# Altium schematic symbol library ic-interface.SchLib: 27 symbols
Pins are listed as number, name and electrical type; pins without a type are passive.

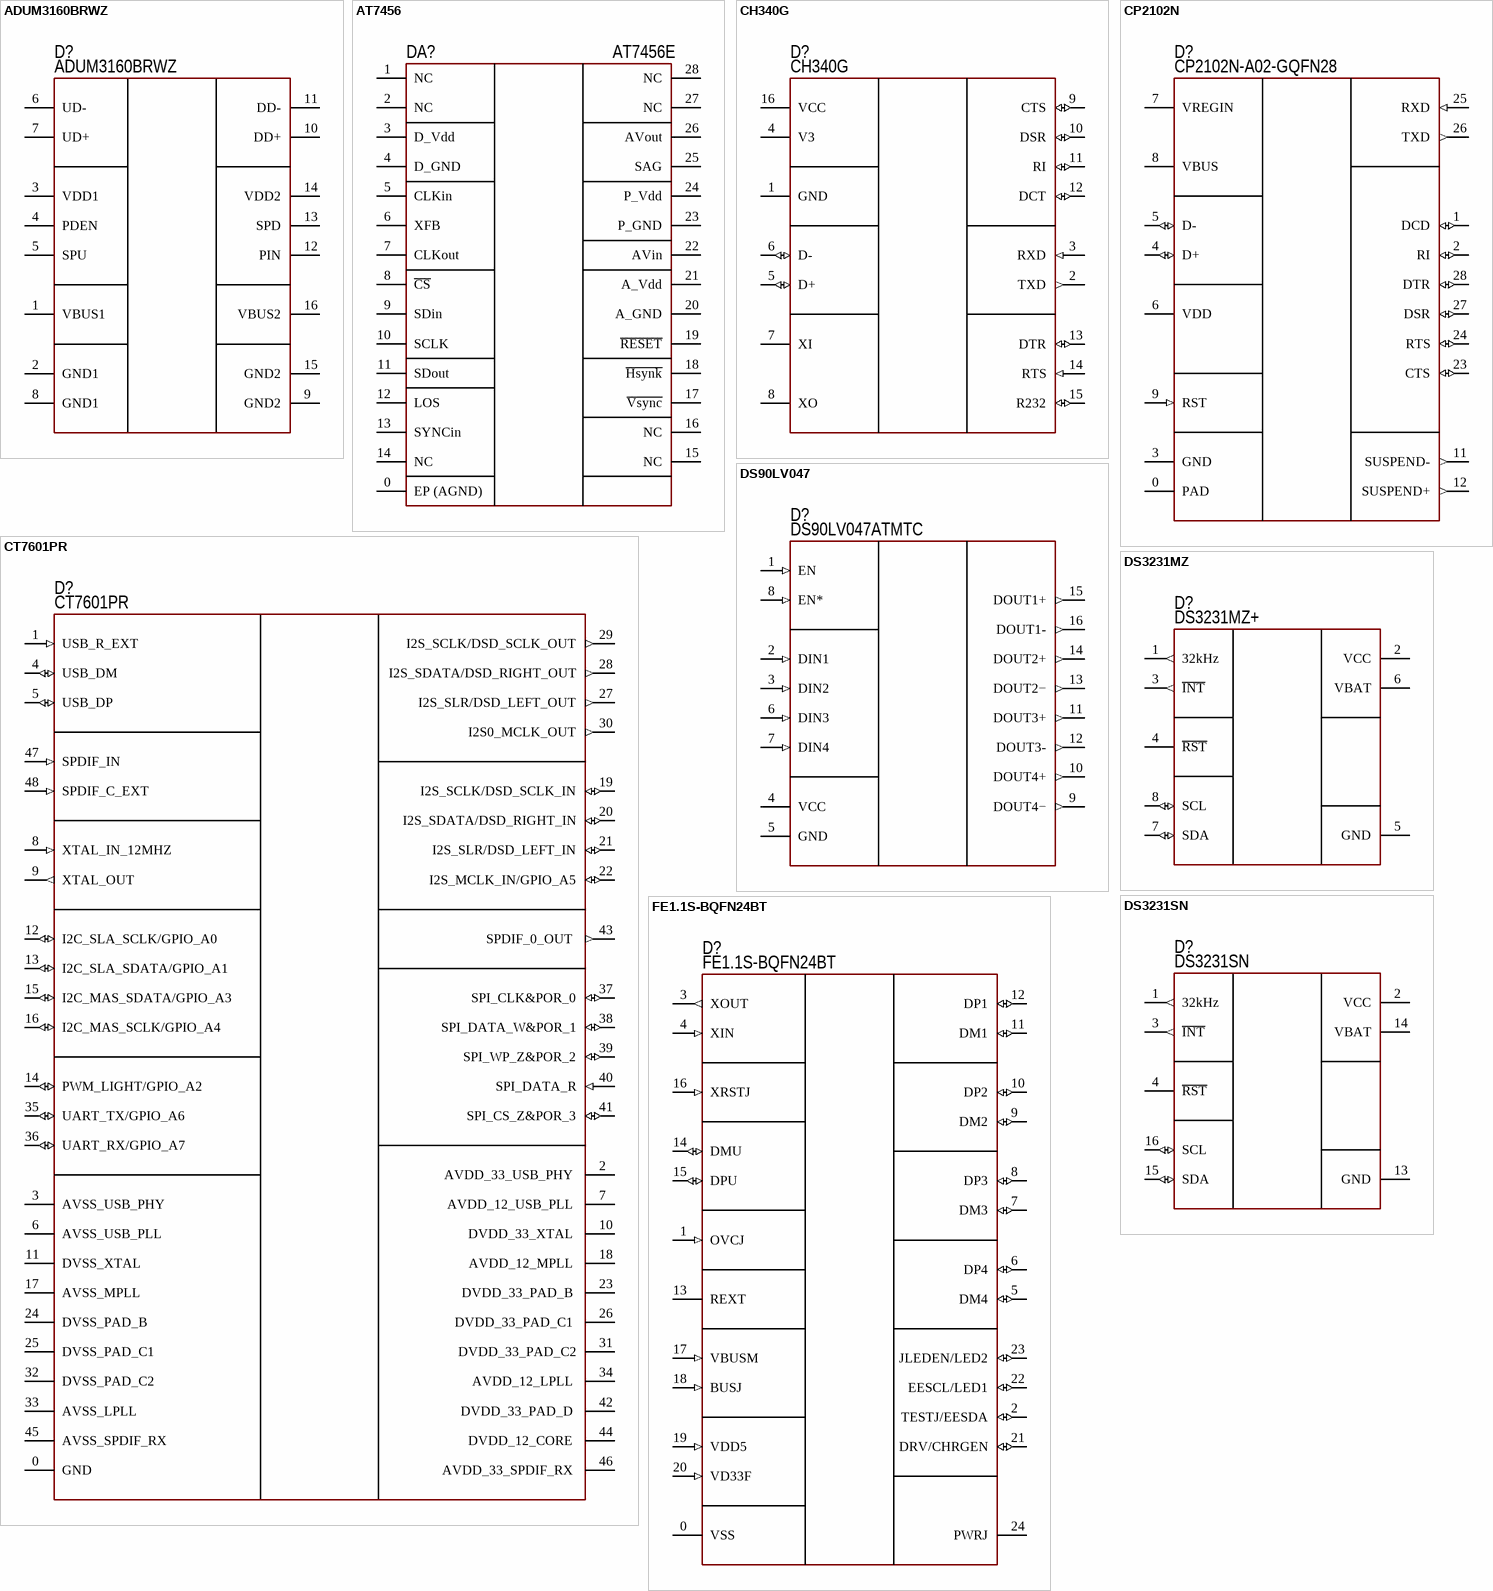
[diagram p0: symbols ADUM3160BRWZ to FE1.1S-BQFN24BT]

## ADUM3160BRWZ
designator D?  PartNumber: ADUM3160BRWZ
USB isolator; Manufacturer: Texas Instruments; ValueManufacturerPartNumber: IC USB isolator, 12Mbps, 2500Vrms, 3...5.5V, -40...+125°C, 16-TSSOP; Supply: 3...5.5V; DataRate: 12Mbps; Isolation: 2500Vrms; HelpURL: https://www.digikey.com/product-detail/en/analog-devices-inc/ADUM3160BRWZ-RL/ADUM3160BRWZ-RLCT-ND/3897186; Package: 16-TSSOP; ComponentType: IC USB isolator; Temperature: -40...+125°C
footprint 16-SOIC (pitch 1.27 mm)
pins: 1 VBUS1, 2 GND1, 3 VDD1, 4 PDEN, 5 SPU, 6 UD-, 7 UD+, 8 GND1, 9 GND2, 10 DD+, 11 DD-, 12 PIN, 13 SPD, 14 VDD2, 15 GND2, 16 VBUS2

## AT7456
designator DA?  PartNumber: AT7456E
analog video OSD, advanced clone of MAX7456; Manufacturer: ZHONGKEW; ValueManufacturerPartNumber: analog video OSD, CVBS, 3.2-5V, -40...+85°C, 28-TSSOP-EP; Supply: 3.2-5V; HelpURL: https://static.chipdip.ru/lib/007/DOC013007230.pdf; Package: 28-TSSOP-EP; ComponentType: analog video OSD; Temperature: -40...+85°C; Standard: CVBS
footprint 28-TSSOP-EP (pitch 0.65 mm, added exposed pad)
pins: 0 EP (AGND), 1 NC, 2 NC, 3 D_Vdd, 4 D_GND, 5 CLKin, 6 XFB, 7 CLKout, 8 ~{CS}, 9 SDin, 10 SCLK, 11 SDout, 12 LOS, 13 SYNCin, 14 NC, 15 NC, 16 NC, 17 ~{Vsync}, 18 ~{Hsynk}, 19 ~{RESET}, 20 A_GND, 21 A_Vdd, 22 AVin, 23 P_GND, 24 P_Vdd, 25 SAG, 26 AVout, 27 NC, 28 NC

## CH340G
designator D?  PartNumber: CH340G
USB-to-UART; Manufacturer: WCH(Jiangsu Qin Heng); ValueManufacturerPartNumber: IC usb-to-uart bridge, USB2.0, 3...3.6V, -40...+85°C, 16- SOP; Supply: 3...3.6V; HelpURL: https://lcsc.com/product-detail/USB-ICs_WCH-Jiangsu-Qin-Heng-CH340G_C14267.html; Package: 16- SOP; ComponentType: IC usb-to-uart bridge; Temperature: -40...+85°C; Standard: USB2.0
footprint 16-SOP (pitch 1.27 mm)
pins: 1 GND, 2 TXD (out), 3 RXD (in), 4 V3, 5 D+ (io), 6 D- (io), 7 XI, 8 XO, 9 CTS (io), 10 DSR (io), 11 RI (io), 12 DCT (io), 13 DTR (io), 14 RTS (in), 15 R232 (io), 16 VCC (power)

## CP2102N
designator D?  PartNumber: CP2102N-A02-GQFN28
USB-to-UART; Manufacturer: Silicon Labs; ValueManufacturerPartNumber: IC usb-to-uart bridge, USB2.0, 3...3.6V, -40...+85°C, 28-VFQFN; Supply: 3...3.6V; HelpURL: https://www.digikey.com/product-detail/en/silicon-labs/CP2102N-A02-GQFN28/336-5889-ND/9863477; Package: 28-VFQFN; ComponentType: IC usb-to-uart bridge; Temperature: -40...+85°C; Standard: USB2.0
footprint 28-QFN (5x5) (5x5 mm, pitch 0.5 mm, power pad)
pins: 0 PAD, 1 DCD (io), 2 RI (io), 3 GND, 4 D+ (io), 5 D- (io), 6 VDD, 7 VREGIN, 8 VBUS, 9 RST (in), 11 SUSPEND- (out), 12 SUSPEND+ (out), 23 CTS (io), 24 RTS (io), 25 RXD (in), 26 TXD (out), 27 DSR (io), 28 DTR (io)

## CT7601PR
designator D?  PartNumber: CT7601PR
Audio USB Bridge; Manufacturer: ComTrue Inc.; Supply: 1.2, 3.3V; HelpURL: https://www.comtrue-inc.com/index.php/download2/category/4-ct7601; Package: QFN-48; ComponentType: Audio USB Bridge; ValueManufacturerPartNumber: =ComponentType+', '+DataRate+', '+Isolation+', '+Supply+', '+Temperature+', '+Package; Temperature: -0...+70°C
footprint 48-QFN (6X6 S4.7) (QFN, 0.40mm Pitch, Square; 48 Pin, 6.00mm L X 6.00mm W X 0.90mm H body (w/thermal tab 4.7 X 4.7mm), IPC Medium Density)
pins: 0 GND, 1 USB_R_EXT (in), 2 AVDD_33_USB_PHY  (power), 3 AVSS_USB_PHY, 4 USB_DM (io), 5 USB_DP (io), 6 AVSS_USB_PLL , 7 AVDD_12_USB_PLL  (power), 8 XTAL_IN_12MHZ  (in), 9 XTAL_OUT  (out), 10 DVDD_33_XTAL  (power), 11 DVSS_XTAL, 12 I2C_SLA_SCLK/GPIO_A0 (io), 13 I2C_SLA_SDATA/GPIO_A1  (io), 14 PWM_LIGHT/GPIO_A2 (io), 15 I2C_MAS_SDATA/GPIO_A3 (io), 16 I2C_MAS_SCLK/GPIO_A4 (io), 17 AVSS_MPLL , 18 AVDD_12_MPLL  (power), 19 I2S_SCLK/DSD_SCLK_IN (io), 20 I2S_SDATA/DSD_RIGHT_IN (io), 21 I2S_SLR/DSD_LEFT_IN (io), 22 I2S_MCLK_IN/GPIO_A5 (io), 23 DVDD_33_PAD_B  (power), 24 DVSS_PAD_B , 25 DVSS_PAD_C1 , 26 DVDD_33_PAD_C1  (power), 27 I2S_SLR/DSD_LEFT_OUT (out), 28 I2S_SDATA/DSD_RIGHT_OUT (out), 29 I2S_SCLK/DSD_SCLK_OUT (out), 30 I2S0_MCLK_OUT (out), 31 DVDD_33_PAD_C2 (power), 32 DVSS_PAD_C2 , 33 AVSS_LPLL , 34 AVDD_12_LPLL  (power), 35 UART_TX/GPIO_A6 (io), 36 UART_RX/GPIO_A7 (io), 37 SPI_CLK&POR_0 (io), 38 SPI_DATA_W&POR_1 (io), 39 SPI_WP_Z&POR_2 (io), 40 SPI_DATA_R (in), 41 SPI_CS_Z&POR_3 (io), 42 DVDD_33_PAD_D  (power), 43 SPDIF_0_OUT  (out), 44 DVDD_12_CORE  (power), 45 AVSS_SPDIF_RX , 46 AVDD_33_SPDIF_RX  (power), 47 SPDIF_IN  (in), 48 SPDIF_C_EXT  (in)

## DS90LV047
designator D?  PartNumber: DS90LV047ATMTC
LVDS Interface IC; Manufacturer: Texas Instruments; ValueManufacturerPartNumber: Quad LVDS Interface IC, 400Mbps, TTL/CMOS, 3...3.6V, -40...+85°C, TSSOP-16; Supply: 3...3.6V; DataRate: 400Mbps; Input: TTL/CMOS; HelpURL: https://www.digikey.com/en/products/detail/texas-instruments/DS90LV047ATMTC/13442009; Package: TSSOP-16; ComponentType: Quad LVDS Interface IC; Temperature: -40...+85°C
footprint 16-TSSOP (pitch 0.65 mm)
footprint 16-SO (pitch 1.27 mm)
pins: 1 EN (in), 2 DIN1 (in), 3 DIN2 (in), 4 VCC (power), 5 GND, 6 DIN3 (in), 7 DIN4 (in), 8 EN* (in), 9 DOUT4− (out), 10 DOUT4+ (out), 11 DOUT3+ (out), 12 DOUT3- (out), 13 DOUT2− (out), 14 DOUT2+ (out), 15 DOUT1+ (out), 16 DOUT1- (out)

## DS3231MZ
designator D?  PartNumber: DS3231MZ+
Real Time Clocks; Manufacturer: Maxim; Supply: 2.3...5.5V; HelpURL: https://www.digikey.com/product-detail/en/maxim-integrated/DS3231MZ/DS3231MZ-ND/2754396; Package: 8-SOIC; ComponentType: Real Time Clocks; ValueManufacturerPartNumber: =ComponentType+', '+DataRate+', '+Isolation+', '+Supply+', '+Temperature+', '+Package; Temperature: -40...+85°C
footprint 8-SOIC (pitch 1.27 mm)
pins: 1 32kHz (out), 2 VCC, 3 ~{INT} (out), 4 ~{RST}, 5 GND, 6 VBAT, 7 SDA (io), 8 SCL (io)

## DS3231SN
designator D?  PartNumber: DS3231SN
Real Time Clocks; Manufacturer: Maxim; Supply: 2.3...5.5V; HelpURL: https://www.digikey.com/product-detail/en/maxim-integrated/DS3231SN-T-R/DS3231SN-T-RCT-ND/3894827; Package: 16-TSSOP; ComponentType: Real Time Clocks; ValueManufacturerPartNumber: =ComponentType+', '+DataRate+', '+Isolation+', '+Supply+', '+Temperature+', '+Package; Temperature: -40...+85°C
footprint 16-SOIC (pitch 1.27 mm)
pins: 1 32kHz (out), 2 VCC, 3 ~{INT} (out), 4 ~{RST}, 13 GND, 14 VBAT, 15 SDA (io), 16 SCL (io)

## FE1.1S-BQFN24BT
designator D?  PartNumber: FE1.1S-BQFN24BT
USB 2.0 HS 4-PORT HUB; Manufacturer: TERMINUS; ValueManufacturerPartNumber: IC usb hub, USB2.0, 5.0/3.3V, -40...+85°C, 24-WQFN; Supply: 5.0/3.3V; HelpURL: https://datasheet.lcsc.com/szlcsc/FE1-1S_C9359.pdf; Package: 24-WQFN; ComponentType: IC usb hub; Temperature: -40...+85°C; Standard: USB2.0
footprint 24-QFN (0.5P 4.0x4.0 2.70S) (QFN,0.50mm Pitch, Square; 24 Pin, 4.00mm W X 4.00mm L X 0.80mm H body (w/Thermal Tab 2.70 X 2.70mm), IPC Medium Density)
pins: 0 VSS, 1 OVCJ (in), 2 TESTJ/EESDA (io), 3 XOUT (out), 4 XIN (in), 5 DM4 (io), 6 DP4 (io), 7 DM3 (io), 8 DP3 (io), 9 DM2 (io), 10 DP2 (io), 11 DM1 (io), 12 DP1 (io), 13 REXT, 14 DMU (io), 15 DPU (io), 16 XRSTJ (in), 17 VBUSM (in), 18 BUSJ (in), 19 VDD5 (in), 20 VD33F (in), 21 DRV/CHRGEN (io), 22 EESCL/LED1 (io), 23 JLEDEN/LED2 (io), 24 PWRJ (oc)

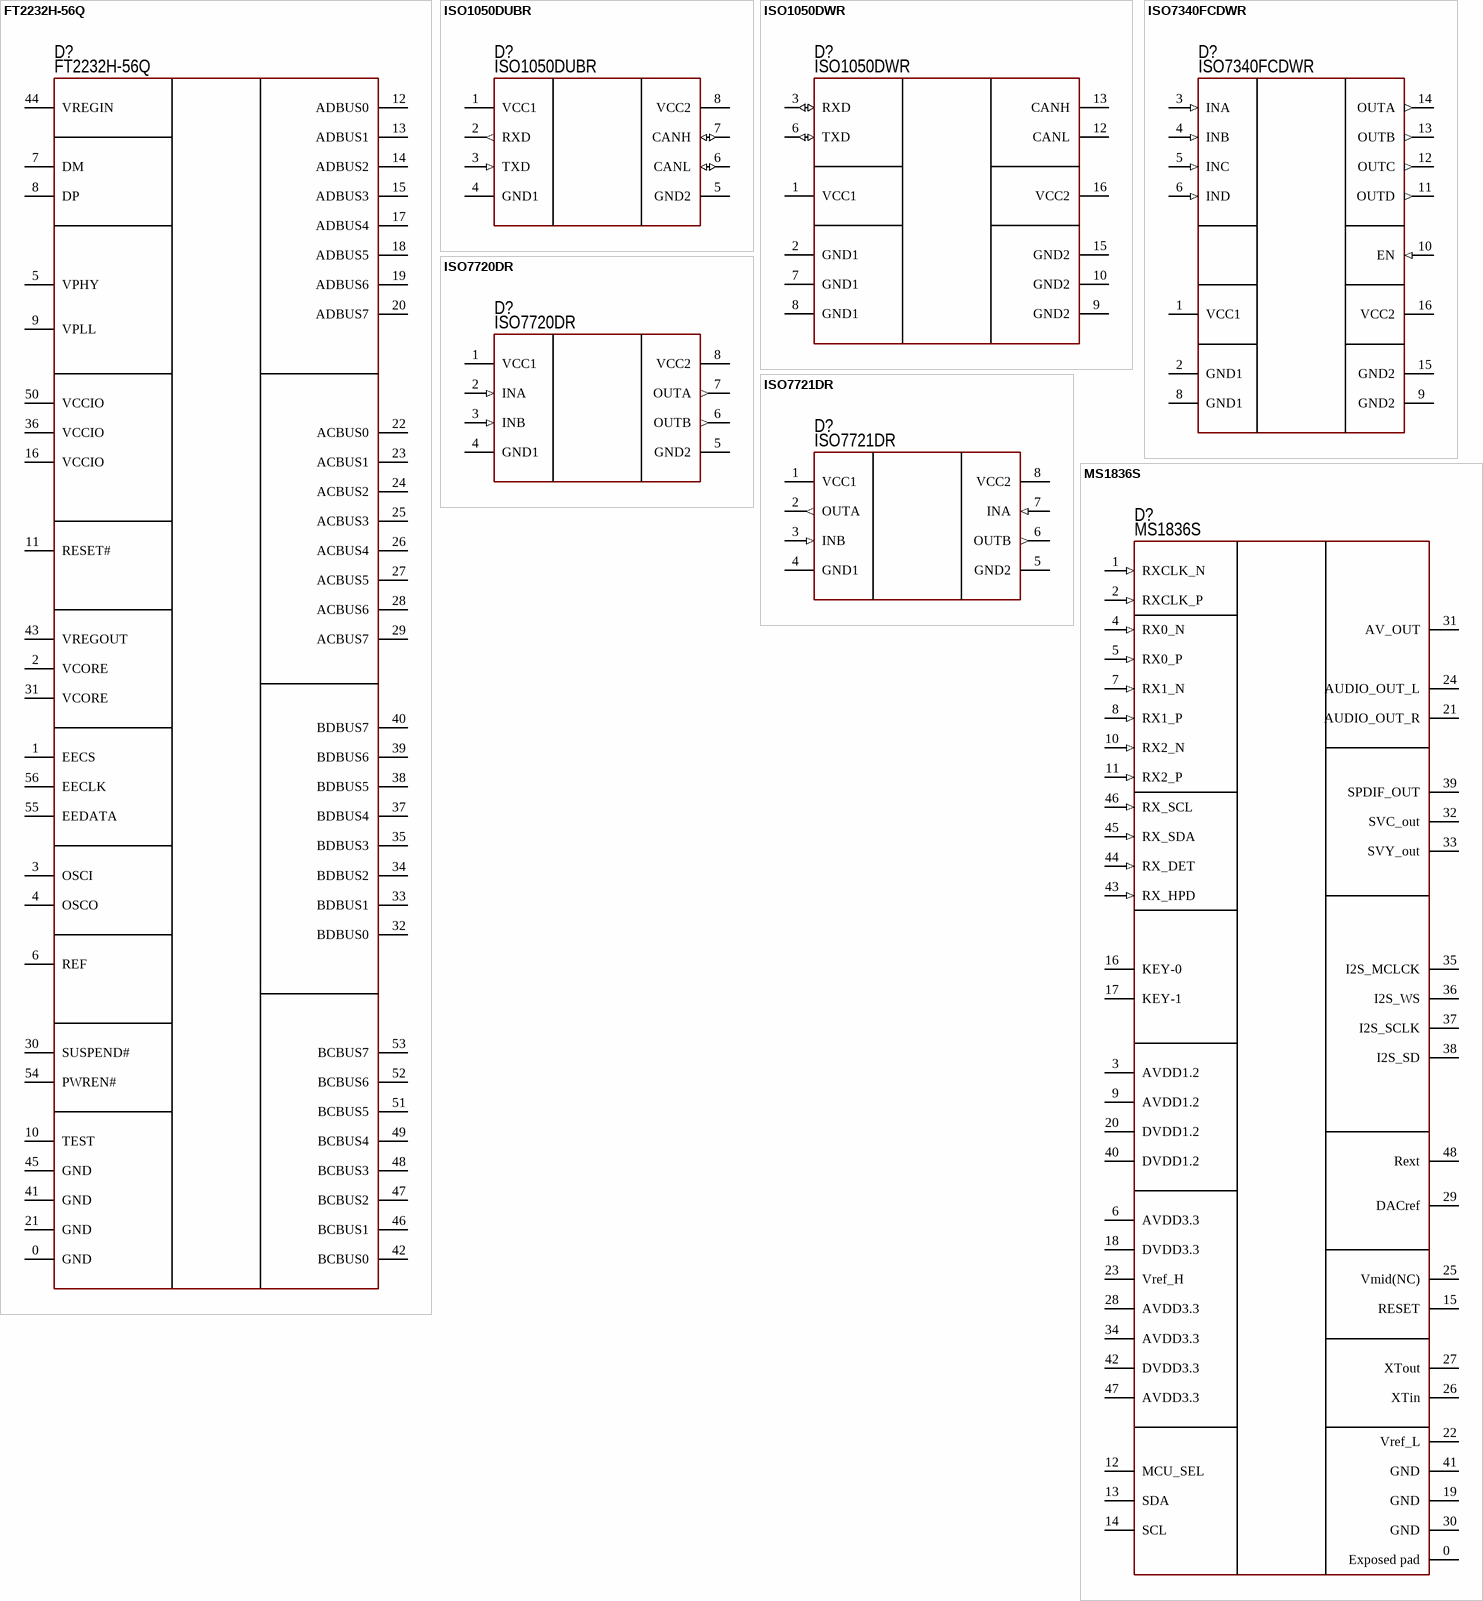
[diagram p1: symbols FT2232H-56Q to MS1836S]

## FT2232H-56Q
designator D?  PartNumber: FT2232H-56Q
USB2.0-to-UART; Manufacturer: FTDI; ValueManufacturerPartNumber: IC usb-to-uart bridge, USB2.0, 3.3V, -40...+85°C, 56-VQFN; Supply: 3.3V; HelpURL: https://www.digikey.com/product-detail/en/texas-instruments/LMV321IDBVR/296-9567-1-ND/379849; Package: 56-VQFN; ComponentType: IC usb-to-uart bridge; Temperature: -40...+85°C; Standard: USB2.0
footprint 56-QFN (8x8 mm, pitch 0.5 mm, power pad)
pins: 0 GND, 1 EECS, 2 VCORE, 3 OSCI, 4 OSCO, 5 VPHY, 6 REF, 7 DM, 8 DP, 9 VPLL, 10 TEST, 11 RESET#, 12 ADBUS0, 13 ADBUS1, 14 ADBUS2, 15 ADBUS3, 16 VCCIO, 17 ADBUS4, 18 ADBUS5, 19 ADBUS6, 20 ADBUS7, 21 GND, 22 ACBUS0, 23 ACBUS1, 24 ACBUS2, 25 ACBUS3, 26 ACBUS4, 27 ACBUS5, 28 ACBUS6, 29 ACBUS7, 30 SUSPEND#, 31 VCORE, 32 BDBUS0, 33 BDBUS1, 34 BDBUS2, 35 BDBUS3, 36 VCCIO, 37 BDBUS4, 38 BDBUS5, 39 BDBUS6, 40 BDBUS7, 41 GND, 42 BCBUS0, 43 VREGOUT, 44 VREGIN, 45 GND, 46 BCBUS1, 47 BCBUS2, 48 BCBUS3, 49 BCBUS4, 50 VCCIO, 51 BCBUS5, 52 BCBUS6, 53 BCBUS7, 54 PWREN#, 55 EEDATA, 56 EECLK

## ISO1050DUBR
designator D?  PartNumber: ISO1050DUBR
CAN isolator; Manufacturer: Texas Instruments; ValueManufacturerPartNumber: IC CAN isolator, 1Mbps, Half-duplex, 3...5.5V, -55...+105°C, 8-SOP; Supply: 3...5.5V; DataRate: 1Mbps; TypeDuplex: Half-duplex; HelpURL: https://www.digikey.com/product-detail/en/texas-instruments/ISO1050DUBR/296-24818-1-ND/2094658; Package: 8-SOP; ComponentType: IC CAN isolator; Temperature: -55...+105°C
footprint 8-SOP (pitch 2.54 mm)
pins: 1 VCC1, 2 RXD (out), 3 TXD (in), 4 GND1, 5 GND2, 6 CANL (io), 7 CANH (io), 8 VCC2

## ISO1050DWR
designator D?  PartNumber: ISO1050DWR
CAN isolator; Manufacturer: Texas Instruments; ValueManufacturerPartNumber: IC CAN isolator, 1Mbps, Half-duplex, 3...5.5V, -55...+105°C, 16-SOIC; Supply: 3...5.5V; DataRate: 1Mbps; TypeDuplex: Half-duplex; HelpURL: https://www.digikey.com/product-detail/en/texas-instruments/ISO1050DWR/296-41267-1-ND/5222731; Package: 16-SOIC; ComponentType: IC CAN isolator; Temperature: -55...+105°C
footprint 16-SOIC (pitch 1.27 mm)
pins: 1 VCC1, 2 GND1, 3 RXD (io), 6 TXD (io), 7 GND1, 8 GND1, 9 GND2, 10 GND2, 12 CANL, 13 CANH, 15 GND2, 16 VCC2

## ISO7340FCDWR
designator D?  PartNumber: ISO7340FCDWR
Digital isolator; Manufacturer: Texas Instruments; ValueManufacturerPartNumber: IC digital isolator, 25Mbps, 3000Vrms, 3...5.5V, -40...+125°C, 16-TSSOP; Supply: 3...5.5V; DataRate: 25Mbps; Isolation: 3000Vrms; HelpURL: https://www.digikey.com/product-detail/en/texas-instruments/LMV321IDBVR/296-9567-1-ND/379849; Package: 16-TSSOP; ComponentType: IC digital isolator; Temperature: -40...+125°C
footprint 16-SOIC (pitch 1.27 mm)
pins: 1 VCC1 (power), 2 GND1 (power), 3 INA (in), 4 INB (in), 5 INC (in), 6 IND (in), 8 GND1 (power), 9 GND2 (power), 10 EN (in), 11 OUTD (out), 12 OUTC (out), 13 OUTB (out), 14 OUTA (out), 15 GND2 (power), 16 VCC2 (power)

## ISO7720DR
designator D?  PartNumber: ISO7720DR
Digital isolator 2/0; Manufacturer: Texas Instruments; ValueManufacturerPartNumber: IC digital isolator, 100Mbps, 3000Vrms, 2.25...5.5V, -55...+125°C, 8-SOIC; Supply: 2.25...5.5V; DataRate: 100Mbps; Isolation: 3000Vrms; HelpURL: https://www.digikey.com/product-detail/en/texas-instruments/ISO7720DR/296-47780-1-ND/8133129; Package: 8-SOIC; ComponentType: IC digital isolator; Temperature: -55...+125°C
footprint 8-SOIC (pitch 1.27 mm)
pins: 1 VCC1, 2 INA (in), 3 INB (in), 4 GND1, 5 GND2, 6 OUTB (out), 7 OUTA (out), 8 VCC2

## ISO7721DR
designator D?  PartNumber: ISO7721DR
Digital isolator 1/1; Manufacturer: Texas Instruments; ValueManufacturerPartNumber: IC digital isolator, 100Mbps, 3000Vrms, 2.25...5.5V, -55...+125°C, 8-SOIC; Supply: 2.25...5.5V; DataRate: 100Mbps; Isolation: 3000Vrms; HelpURL: https://www.digikey.com/product-detail/en/texas-instruments/ISO7721DR/296-48296-1-ND/8347715; Package: 8-SOIC; ComponentType: IC digital isolator; Temperature: -55...+125°C
footprint 8-SOIC (pitch 1.27 mm)
pins: 1 VCC1, 2 OUTA (out), 3 INB (in), 4 GND1, 5 GND2, 6 OUTB (out), 7 INA (in), 8 VCC2

## MS1836S
designator D?  PartNumber: MS1836S
HDMI to CVBS converter; Manufacturer: Macrosilicon; ValueManufacturerPartNumber: HDMI-to-CVBS converter, , , 1.2V, 3.3V, -40...+85°C, 48-LQFP; Supply: 1.2V, 3.3V; HelpURL: https://www.lcsc.com/datasheet/C51939519.pdf; Package: 48-LQFP; ComponentType: HDMI-to-CVBS converter; Temperature: -40...+85°C
footprint 48-QFN-S (50P-700X700X90-S510) (QFN, 0.50mm Pitch, Square; 48 Pin, 7.00mm L X 7.00mm W X 0.90mm H Body (W/Thermal Tab 5.10mm X 5.10mm), Saw, IPC Medium Density)
pins: 0 Exposed pad, 1 RXCLK_N (in), 2 RXCLK_P (in), 3 AVDD1.2, 4 RX0_N (in), 5 RX0_P (in), 6 AVDD3.3, 7 RX1_N (in), 8 RX1_P (in), 9 AVDD1.2, 10 RX2_N (in), 11 RX2_P (in), 12 MCU_SEL, 13 SDA, 14 SCL, 15 RESET, 16 KEY-0, 17 KEY-1, 18 DVDD3.3, 19 GND, 20 DVDD1.2, 21 AUDIO_OUT_R, 22 Vref_L, 23 Vref_H, 24 AUDIO_OUT_L, 25 Vmid(NC), 26 XTin, 27 XTout, 28 AVDD3.3, 29 DACref, 30 GND, 31 AV_OUT, 32 SVC_out, 33 SVY_out, 34 AVDD3.3, 35 I2S_MCLCK, 36 I2S_WS, 37 I2S_SCLK, 38 I2S_SD, 39 SPDIF_OUT, 40 DVDD1.2, 41 GND, 42 DVDD3.3, 43 RX_HPD (in), 44 RX_DET (in), 45 RX_SDA (in), 46 RX_SCL (in), 47 AVDD3.3, 48 Rext

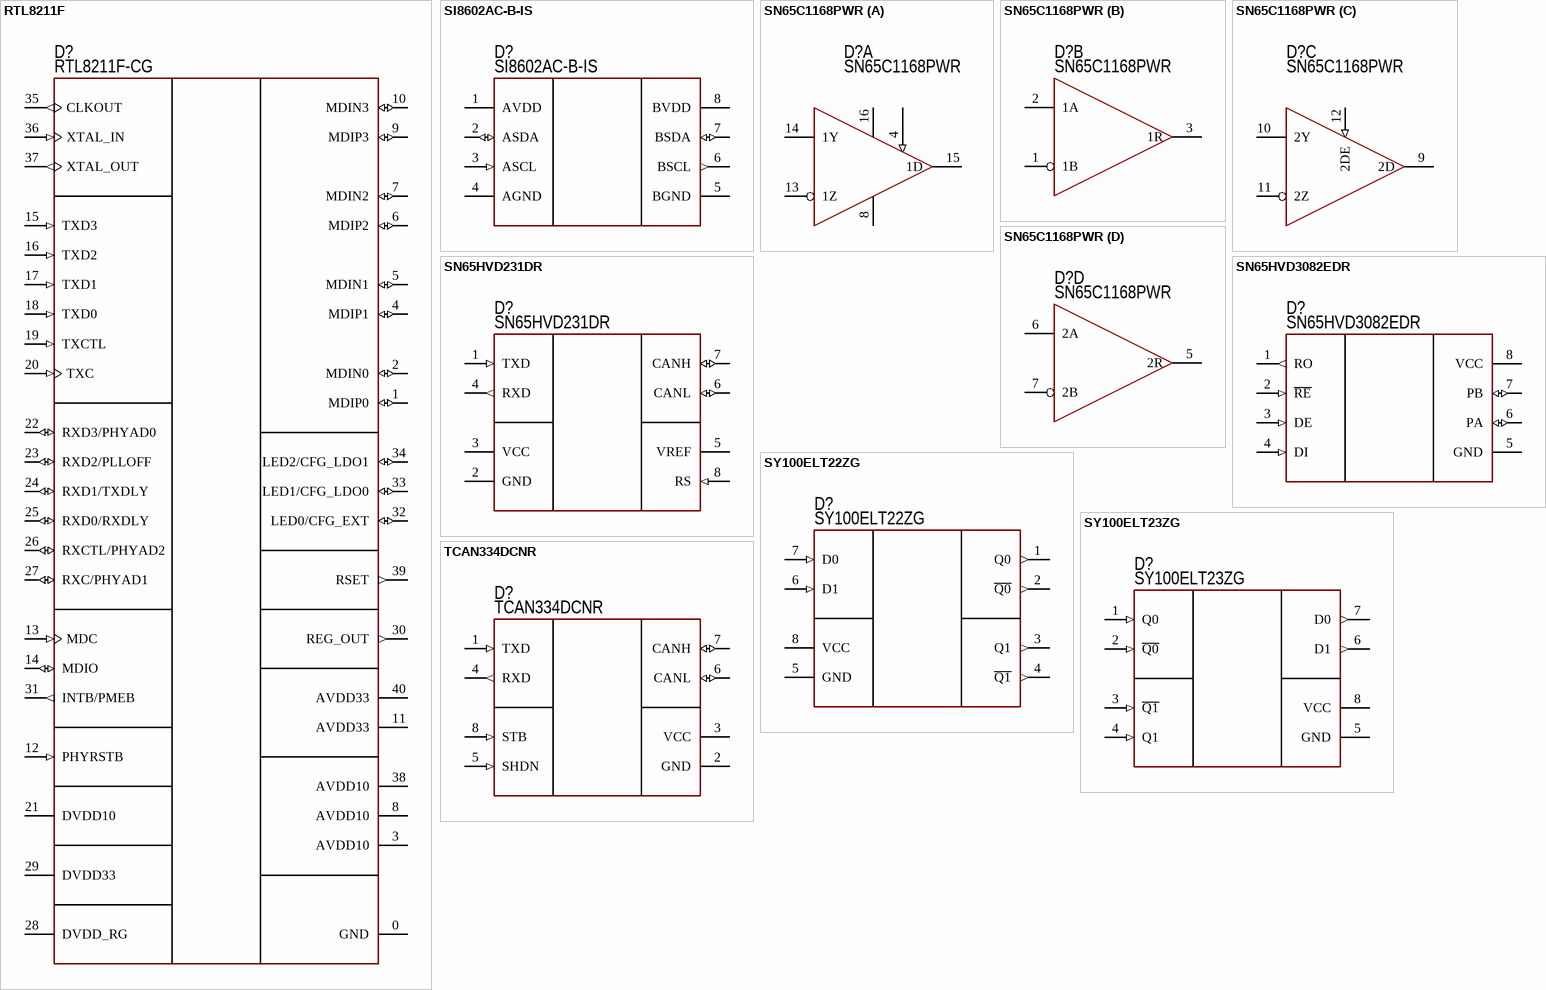
[diagram p2: symbols RTL8211F to TCAN334DCNR]

## RTL8211F
designator D?  PartNumber: RTL8211F-CG
Ethernet PHY 10/100/1000M; Manufacturer: Realtek Semiconductor; ValueManufacturerPartNumber: IC ethernet transceiver, 10/100/1000 Mbps, MDI, RGMII, 3.3/1.8/1.0V, 0...+70°C, 40-QFN; Supply: 3.3/1.8/1.0V; DataRate: 10/100/1000 Mbps; Protocol: MDI, RGMII; HelpURL: https://www.realtek.com/en/products/communications-network-ics/item/rtl8211f-i-cg; Package: 40-QFN; ComponentType: IC ethernet transceiver; Temperature: 0...+70°C
footprint 40-QFN (0.4P 5.0x5.0 3.6S) (QFN, 0.40mm Pitch, Square; 40 Pin, 5.00mm L X 5.00mm W X 0.80mm H body (w/Thermal Tab 3.60 X 3.60 mm), IPC Medium Density)
pins: 0 GND (power), 1 MDIP0 (io), 2 MDIN0 (io), 3 AVDD10 (power), 4 MDIP1 (io), 5 MDIN1 (io), 6 MDIP2 (io), 7 MDIN2 (io), 8 AVDD10 (power), 9 MDIP3 (io), 10 MDIN3 (io), 11 AVDD33 (power), 12 PHYRSTB (in), 13 MDC (in), 14 MDIO (io), 15 TXD3 (in), 16 TXD2 (in), 17 TXD1 (in), 18 TXD0 (in), 19 TXCTL (in), 20 TXC (in), 21 DVDD10 (power), 22 RXD3/PHYAD0 (io), 23 RXD2/PLLOFF (io), 24 RXD1/TXDLY (io), 25 RXD0/RXDLY (io), 26 RXCTL/PHYAD2 (io), 27 RXC/PHYAD1 (io), 28 DVDD_RG (power), 29 DVDD33 (power), 30 REG_OUT (out), 31 INTB/PMEB (out), 32 LED0/CFG_EXT (io), 33 LED1/CFG_LDO0 (io), 34 LED2/CFG_LDO1 (io), 35 CLKOUT (out), 36 XTAL_IN (in), 37 XTAL_OUT (out), 38 AVDD10 (power), 39 RSET (out), 40 AVDD33 (power)

## SI8602AC-B-IS
designator D?  PartNumber: SI8602AC-B-IS
Digital isolator i2c; Manufacturer: Silicon Labs; ValueManufacturerPartNumber: IC digital isolator I2C, 1000 kHz, 3750Vrms, 3...5.5V, -40...+125°C, 8-SOIC; Supply: 3...5.5V; DataRate: 1000 kHz; Isolation: 3750Vrms; HelpURL: https://www.digikey.com/product-detail/en/silicon-labs/SI8602AC-B-IS/336-2050-5-ND/2623285; Package: 8-SOIC; ComponentType: IC digital isolator I2C; Temperature: -40...+125°C
footprint 8-SOIC (pitch 1.27 mm)
pins: 1 AVDD, 2 ASDA (io), 3 ASCL (in), 4 AGND, 5 BGND, 6 BSCL (out), 7 BSDA (io), 8 BVDD

## SN65C1168PWR
designator D?  PartNumber: SN65C1168PWR
RS422/RS485; Manufacturer: Texas Instruments; ValueManufacturerPartNumber: IC transceiver RS422/RS485, Full duplex, 4.5...5.5V, -40...+85°C, 16-TSSOP; Supply: 4.5...5.5V; ChannelType: Full duplex; HelpURL: https://www.digikey.com/product-detail/en/texas-instruments/SN65C1168PWR/296-14348-1-ND/530060; Package: 16-TSSOP; ComponentType: IC transceiver RS422/RS485; Temperature: -40...+85°C
footprint 16-TSSOP (pitch 0.65 mm)
part A pins: 4 1DE (in), 8 GND, 13 1Z, 14 1Y, 15 1D, 16 VCC
part B pins: 1 1B, 2 1A, 3 1R
part C pins: 9 2D, 10 2Y, 11 2Z, 12 2DE (in)
part D pins: 5 2R, 6 2A, 7 2B

## SN65HVD231DR
designator D?  PartNumber: SN65HVD231DR
CAN; Manufacturer: Texas Instruments; ValueManufacturerPartNumber: IC CAN transceiver, 1Mbps, Half-duplex, 3...3.6V, -40...+85°C, 8-SOIC; Supply: 3...3.6V; DataRate: 1Mbps; TypeDuplex: Half-duplex; HelpURL: https://www.digikey.com/product-detail/en/texas-instruments/SN65HVD231DR/296-26343-1-ND/2254977; Package: 8-SOIC; ComponentType: IC CAN transceiver; Temperature: -40...+85°C
footprint 8-SOIC (pitch 1.27 mm)
pins: 1 TXD (in), 2 GND, 3 VCC, 4 RXD (out), 5 VREF, 6 CANL (io), 7 CANH (io), 8 RS (in)

## SN65HVD3082EDR
designator D?  PartNumber: SN65HVD3082EDR
RS485; Manufacturer: Texas Instruments; ValueManufacturerPartNumber: IC RS485 transceiver, 200 kbps, Half-duplex, 4.5...5.5V, -40...+85°C, 8-SOIC; Supply: 4.5...5.5V; DataRate: 200 kbps; TypeDuplex: Half-duplex; HelpURL: https://www.digikey.com/product-detail/en/texas-instruments/SN65HVD3082EDR/296-31719-1-ND/3505195; Package: 8-SOIC; ComponentType: IC RS485 transceiver; Temperature: -40...+85°C
footprint 8-SOIC (pitch 1.27 mm)
pins: 1 RO (out), 2 ~{RE} (in), 3 DE (in), 4 DI (in), 5 GND (power), 6 PA (io), 7 PB (io), 8 VCC (power)

## SY100ELT22ZG
designator D?  PartNumber: SY100ELT22ZG
TTL-to-PECL; Manufacturer: Microchip Technology; ValueManufacturerPartNumber: IC TTL-to-PECL translator, Unidirectional, 4.5...5.5V, -40...+85°C, 8-SOIC; Supply: 4.5...5.5V; ChannelType: Unidirectional; HelpURL: https://www.digikey.com/product-detail/en/microchip-technology/SY100ELT22ZG-TR/SY100ELT22ZG-CT-ND/9923834; Package: 8-SOIC; ComponentType: IC TTL-to-PECL translator; Temperature: -40...+85°C
footprint 8-SOIC (pitch 1.27 mm)
pins: 1 Q0 (out), 2 ~{Q0} (out), 3 Q1 (out), 4 ~{Q1} (out), 5 GND (power), 6 D1 (in), 7 D0 (in), 8 VCC (power)

## SY100ELT23ZG
designator D?  PartNumber: SY100ELT23ZG
PECL-to-TTL; Manufacturer: Microchip Technology; ValueManufacturerPartNumber: IC PECL-to-TTL translator, Unidirectional, 4.5...5.5V, -40...+85°C, 8-SOIC; Supply: 4.5...5.5V; ChannelType: Unidirectional; HelpURL: https://www.digikey.com/product-detail/en/microchip-technology/SY100ELT23ZG/576-1363-ND/771955; Package: 8-SOIC; ComponentType: IC PECL-to-TTL translator; Temperature: -40...+85°C
footprint 8-SOIC (pitch 1.27 mm)
pins: 1 Q0 (in), 2 ~{Q0} (in), 3 ~{Q1} (in), 4 Q1 (in), 5 GND (power), 6 D1 (out), 7 D0 (out), 8 VCC (power)

## TCAN334DCNR
designator D?  PartNumber: TCAN334DCNR
CAN; Manufacturer: Texas Instruments; ValueManufacturerPartNumber: IC CAN transceiver, 1Mbps, Half-duplex, 3...3.6V, -40...+125°C, SOT23-8; Supply: 3...3.6V; DataRate: 1Mbps; TypeDuplex: Half-duplex; HelpURL: https://www.digikey.com/product-detail/en/texas-instruments/TCAN334DCNR/296-47830-1-ND/8133179; Package: SOT23-8; ComponentType: IC CAN transceiver; Temperature: -40...+125°C
footprint SOT23-8 (pitch 0.95 mm)
pins: 1 TXD (in), 2 GND, 3 VCC, 4 RXD (out), 5 SHDN (in), 6 CANL (io), 7 CANH (io), 8 STB (in)

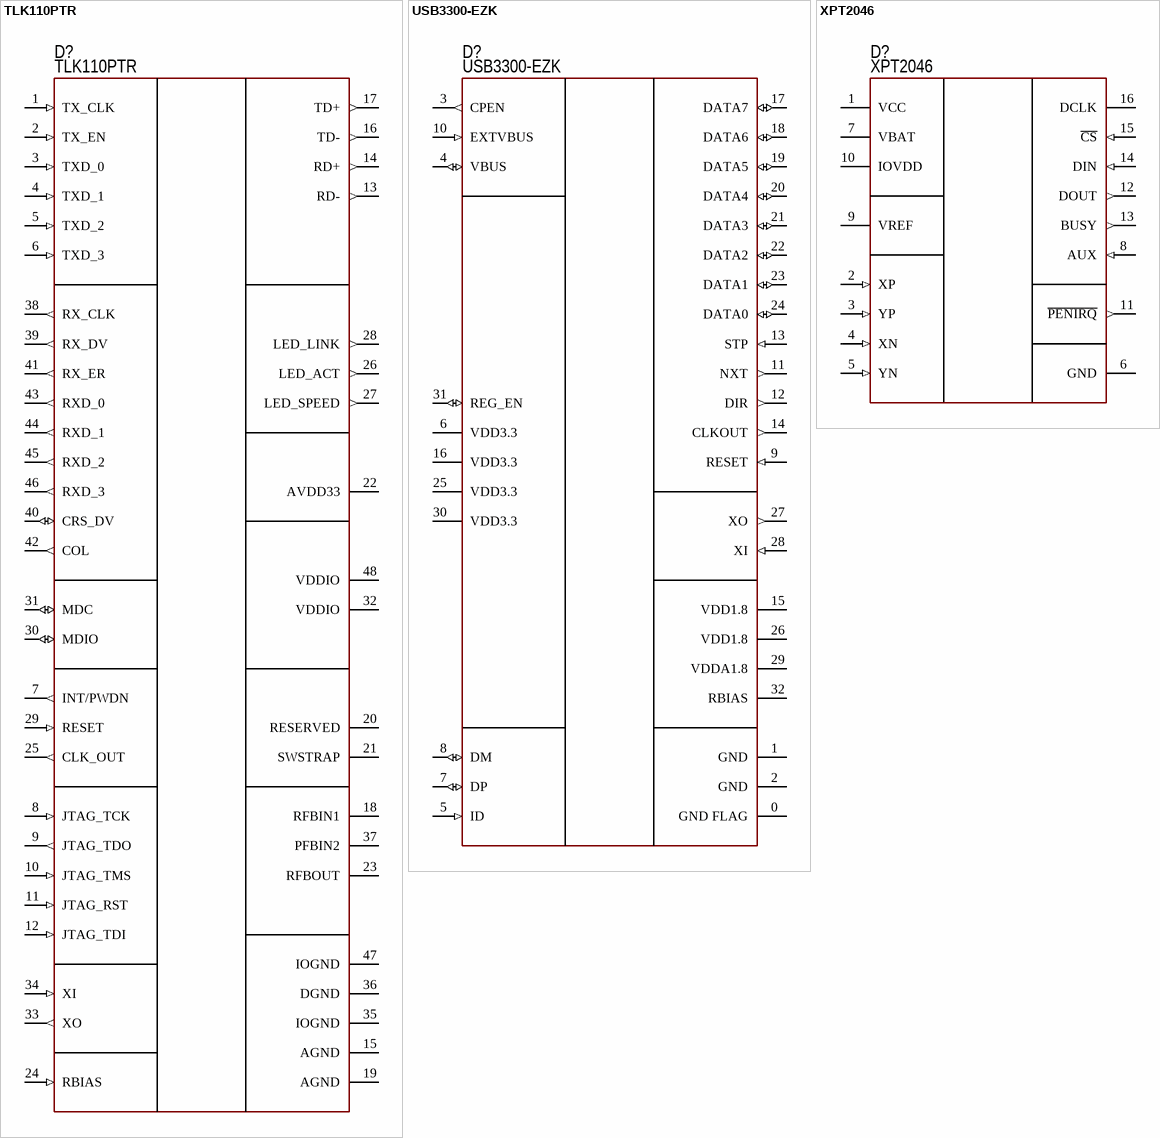
[diagram p3: symbols TLK110PTR to XPT2046]

## TLK110PTR
designator D?  PartNumber: TLK110PTR
Ethernet PHY 10/100M; Manufacturer: Texas Instruments; ValueManufacturerPartNumber: IC ethernet transceiver, 10/100 Mbps, MII, RMII, 3...3.6V, -40...+85°C, 48-LQFP; Supply: 3...3.6V; DataRate: 10/100 Mbps; Protocol: MII, RMII; HelpURL: https://www.digikey.com/product-detail/en/texas-instruments/TLK110PTR/296-30096-1-ND/2798835; Package: 48-LQFP; ComponentType: IC ethernet transceiver; Temperature: -40...+85°C
footprint 48-LQFP (QFP, 48-Leads, Body 7x7mm, Pitch 0.5mm, IPC Medium Density)
pins: 1 TX_CLK (in), 2 TX_EN (in), 3 TXD_0 (in), 4 TXD_1 (in), 5 TXD_2 (in), 6 TXD_3 (in), 7 INT/PWDN (out), 8 JTAG_TCK (in), 9 JTAG_TDO (out), 10 JTAG_TMS (in), 11 JTAG_RST (in), 12 JTAG_TDI (in), 13 RD- (out), 14 RD+ (out), 15 AGND (power), 16 TD- (out), 17 TD+ (out), 18 RFBIN1 (power), 19 AGND (power), 20 RESERVED, 21 SWSTRAP, 22 AVDD33 (power), 23 RFBOUT (power), 24 RBIAS (in), 25 CLK_OUT (out), 26 LED_ACT (out), 27 LED_SPEED (out), 28 LED_LINK (out), 29 RESET (in), 30 MDIO (io), 31 MDC (io), 32 VDDIO (power), 33 XO (out), 34 XI (in), 35 IOGND (power), 36 DGND (power), 37 PFBIN2 (power), 38 RX_CLK (out), 39 RX_DV (out), 40 CRS_DV (io), 41 RX_ER (out), 42 COL (out), 43 RXD_0 (out), 44 RXD_1 (out), 45 RXD_2 (out), 46 RXD_3 (out), 47 IOGND (power), 48 VDDIO (power)

## USB3300-EZK
designator D?  PartNumber: USB3300-EZK
USB Interface; Manufacturer: Microchip; ValueManufacturerPartNumber: USB Interface IC, 480 Mb/s, ULPI, USB, 3...3.6V, -40...+85°C, QFN-32; Supply: 3...3.6V; DataRate: 480 Mb/s; Protocol: ULPI, USB; HelpURL: https://ru.mouser.com/ProductDetail/Microchip-Technology/USB3300-EZK?qs=sGAEpiMZZMtv%252Bwxsgy%2FhiAlYNAg5Ms%2FkPEcDyuHbNuw%3D; Package: QFN-32; ComponentType: USB Interface IC; Temperature: -40...+85°C
footprint 32-QFN (5x5 mm, pitch 0.5 mm, power pad)
pins: 0 GND FLAG (power), 1 GND (power), 2 GND (power), 3 CPEN (out), 4 VBUS (io), 5 ID (in), 6 VDD3.3 (power), 7 DP (io), 8 DM (io), 9 RESET (in), 10 EXTVBUS (in), 11 NXT (out), 12 DIR (out), 13 STP (in), 14 CLKOUT (out), 15 VDD1.8 (power), 16 VDD3.3 (power), 17 DATA7 (io), 18 DATA6 (io), 19 DATA5 (io), 20 DATA4 (io), 21 DATA3 (io), 22 DATA2 (io), 23 DATA1 (io), 24 DATA0 (io), 25 VDD3.3 (power), 26 VDD1.8 (power), 27 XO (out), 28 XI (in), 29 VDDA1.8 (power), 30 VDD3.3 (power), 31 REG_EN (io), 32 RBIAS

## XPT2046
designator D?  PartNumber: XPT2046
Touch Screen Controller; Manufacturer: XPT; Supply: 2.7...5.5V; HelpURL: https://lcsc.com/product-detail/Touch-Screen-Controllers_XPT-Shenzhen-XPTEK-Tech-XPT2046_C19076.html; Package: 16-TSSOP; ComponentType: Touch Screen Controller; ValueManufacturerPartNumber: =ComponentType+', '+DataRate+', '+Isolation+', '+Supply+', '+Temperature+', '+Package; Temperature: -40...+85°C
footprint 16-TSSOP (pitch 0.65 mm)
pins: 1 VCC (power), 2 XP (in), 3 YP (in), 4 XN (in), 5 YN (in), 6 GND (power), 7 VBAT (power), 8 AUX (in), 9 VREF, 10 IOVDD (power), 11 ~{PENIRQ} (out), 12 DOUT (out), 13 BUSY (out), 14 DIN (in), 15 ~{CS} (in), 16 DCLK